# Altium footprint library STC89C52.PcbLib: 17 footprints (part 2 of 2)
Each footprint in its own frame and in the unit in brackets; x right, y up, seen from the top. Pads: shape width x height; smd on the part's side, far side on the other; paste and mask are expansions set on the pad; w line width, h text height; cw(c..) or ccw(c..) is an arc to the next point about the centre after c.
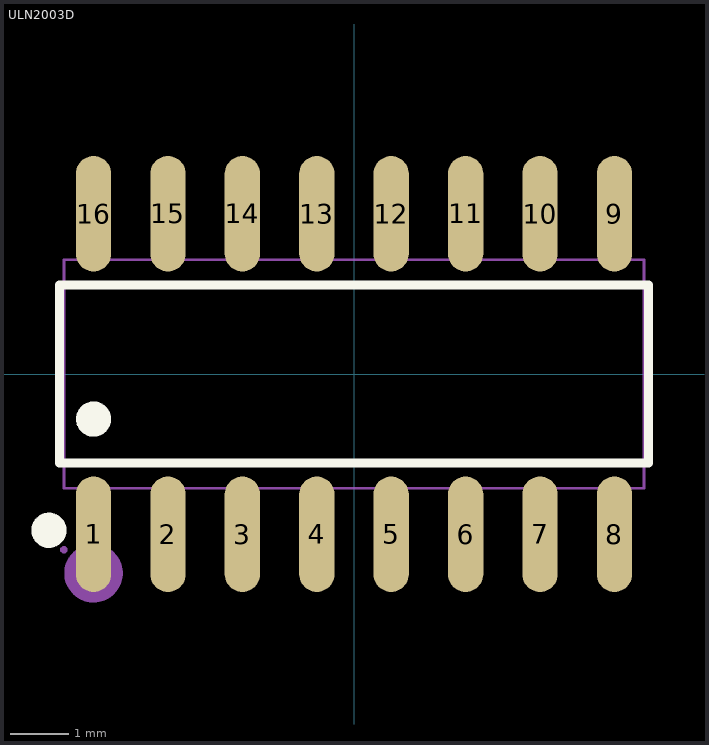
[diagram p1: the footprint, top view; thin cyan lines are the x and y axes]

## ULN2003D [mm]
pads (16):
  oval 0.602x1.971 smd paste+0.051: 1(-4.445,-2.736) 2(-3.175,-2.736) 3(-1.905,-2.736) 4(-0.635,-2.736) 5(0.635,-2.736) 6(1.905,-2.736) 7(3.175,-2.736) 8(4.445,-2.736) 9(4.445,2.736) 10(3.175,2.736) 11(1.905,2.736) 12(0.635,2.736) 13(-0.635,2.736) 14(-1.905,2.736) 15(-3.175,2.736) 16(-4.445,2.736)
Top Overlay:
  circle w0.3: c-5.207,-2.667 r0.15
  circle w0.3: c-4.445,-0.769 r0.15
  lines w0.152: -5.026,-1.521 5.026,-1.521 5.026,1.521 -5.026,1.521 -5.026,-1.521
Mechanical 2:
  circle w0.5: c-4.445,-3.4 r0.25
Mechanical 6:
  lines w0.051: -4.95,-1.95 4.95,-1.95 4.95,1.95 -4.95,1.95 -4.95,-1.95
Mechanical 7:
  region: 4.23,2.31 4.23,1.94 4.66,1.94 4.66,2.31
  region: 2.96,2.31 2.96,1.94 3.39,1.94 3.39,2.31
  region: 1.69,2.31 1.69,1.94 2.12,1.94 2.12,2.31
  region: 0.42,2.31 0.42,1.94 0.85,1.94 0.85,2.31
  region: -0.85,2.31 -0.85,1.94 -0.42,1.94 -0.42,2.31
  region: -2.12,2.31 -2.12,1.94 -1.69,1.94 -1.69,2.31
  region: -3.39,2.31 -3.39,1.94 -2.96,1.94 -2.96,2.31
  region: -4.66,2.31 -4.66,1.94 -4.23,1.94 -4.23,2.31
  region: 4.23,-2.31 4.23,-1.94 4.66,-1.94 4.66,-2.31
  region: 2.96,-2.31 2.96,-1.94 3.39,-1.94 3.39,-2.31
  region: 1.69,-2.31 1.69,-1.94 2.12,-1.94 2.12,-2.31
  region: 0.42,-2.31 0.42,-1.94 0.85,-1.94 0.85,-2.31
  region: -0.85,-2.31 -0.85,-1.94 -0.42,-1.94 -0.42,-2.31
  region: -2.12,-2.31 -2.12,-1.94 -1.69,-1.94 -1.69,-2.31
  region: -3.39,-2.31 -3.39,-1.94 -2.96,-1.94 -2.96,-2.31
  region: -4.66,-2.31 -4.66,-1.94 -4.23,-1.94 -4.23,-2.31
Mechanical 8:
  region: -4.89,-3 -4.89,-3.025 -4.925,-3.06 -4.975,-3.06 -5.01,-3.025 -5.01,-3 -5.01,-2.975 -4.975,-2.94 -4.925,-2.94 -4.89,-2.975 -4.89,-3
Mechanical 9:
  region: 4.23,3 4.23,2.3 4.66,2.3 4.66,3
  region: 2.96,3 2.96,2.3 3.39,2.3 3.39,3
  region: 1.69,3 1.69,2.3 2.12,2.3 2.12,3
  region: 0.42,3 0.42,2.3 0.85,2.3 0.85,3
  region: -0.85,3 -0.85,2.3 -0.42,2.3 -0.42,3
  region: -2.12,3 -2.12,2.3 -1.69,2.3 -1.69,3
  region: -3.39,3 -3.39,2.3 -2.96,2.3 -2.96,3
  region: -4.66,3 -4.66,2.3 -4.23,2.3 -4.23,3
  region: 4.23,-3 4.23,-2.3 4.66,-2.3 4.66,-3
  region: 2.96,-3 2.96,-2.3 3.39,-2.3 3.39,-3
  region: 1.69,-3 1.69,-2.3 2.12,-2.3 2.12,-3
  region: 0.42,-3 0.42,-2.3 0.85,-2.3 0.85,-3
  region: -0.85,-3 -0.85,-2.3 -0.42,-2.3 -0.42,-3
  region: -2.12,-3 -2.12,-2.3 -1.69,-2.3 -1.69,-3
  region: -3.39,-3 -3.39,-2.3 -2.96,-2.3 -2.96,-3
  region: -4.66,-3 -4.66,-2.3 -4.23,-2.3 -4.23,-3